# Altium integrated library BC547.IntLib: 1 symbol
Pins are listed as number, name and electrical type; pins without a type are passive.

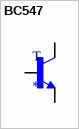
[diagram p0: symbol BC547]

## BC547
designator T
Bipolar _BJT_ Transistor NPN 45V 100mA 300MHz 500mW Through Hole TO-92-3; MP: BC547; MF: ON Semiconductor; Price: None; SnapEDA_Link: https://www.snapeda.com/parts/BC547/ON%20Semiconductor/view-part/608530/?ref=snap; Availability: Unavailable; Value: *; Package: TO-92 ON Semiconductor
footprint TO92
pins: 1 E, 2 B, 3 C